# Altium footprint library 27 RESISTORS_THD_AX14_8mm_P.PcbLib: 9 footprints
Each footprint in its own frame and in the unit in brackets; x right, y up, seen from the top. Pads: shape width x height; smd on the part's side, far side on the other; paste and mask are expansions set on the pad; w line width, h text height; cw(c..) or ccw(c..) is an arc to the next point about the centre after c.
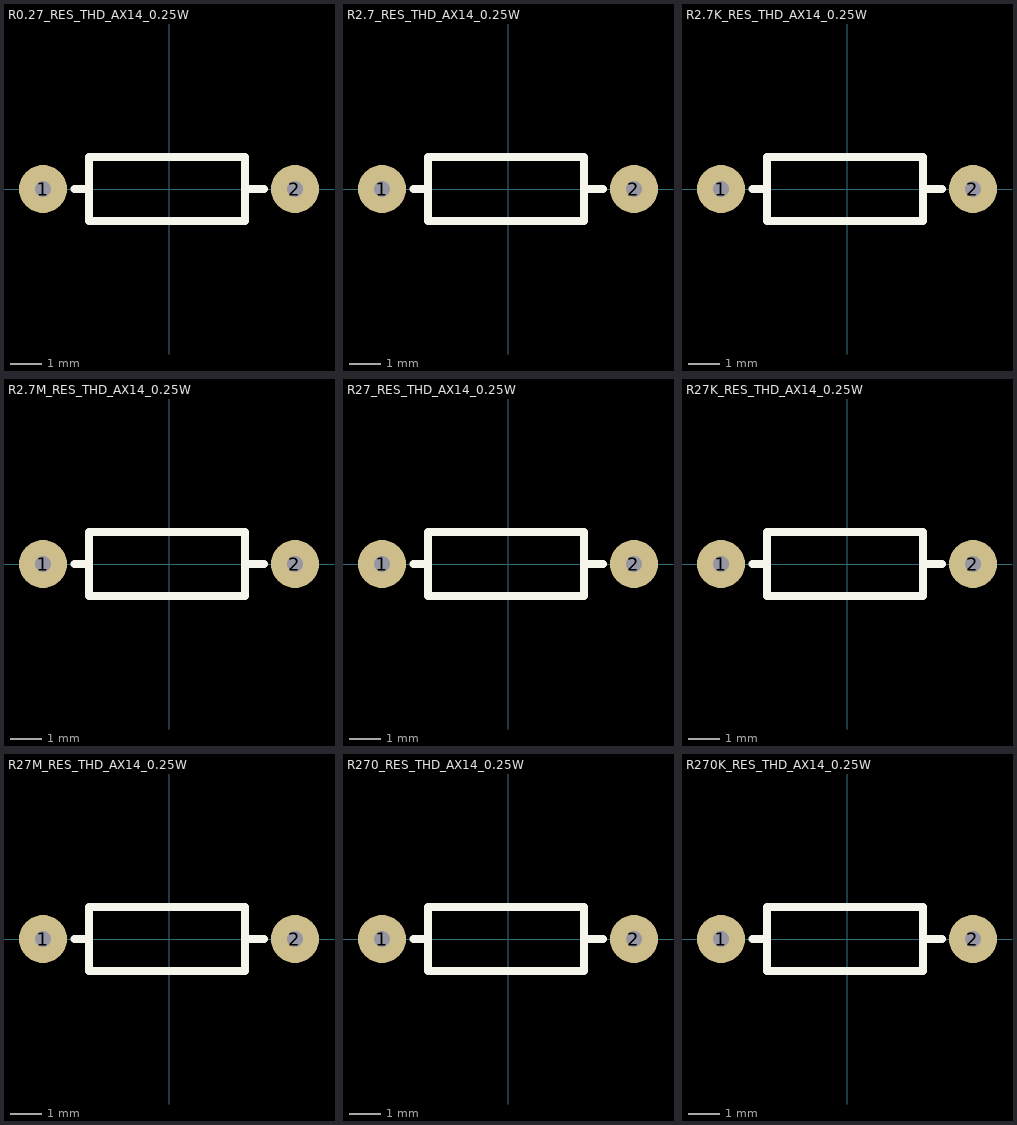
[diagram p0: the footprints below, top view; thin cyan lines are the x and y axes]

## R0.27_RES_THD_AX14_0.25W [mil] "RESISTOR 0.27 Ohm  THD AX14 0.25W Length  8mm"
pads (2):
  round 60 hole 19.68: 1(-157.48,0) 2(157.48,0)
Top Overlay:
  lines w10: -118.28,0 -100.6,0 ; 95,0 118.49,0 ; -100,-40 95,-40 95,40 -100,40 -100,-40
3D body "RES_THD_ASR_ASRM_0.27.STEP": height 96.5, standoff -96.46, extent -167.32,-45.33 167.32,45.33

## R2.7_RES_THD_AX14_0.25W [mil] "RESISTOR 2.7 Ohm  THD AX14 0.25W Length  8mm"
pads (2):
  round 60 hole 19.68: 1(-157.48,0) 2(157.48,0)
Top Overlay:
  lines w10: -118.28,0 -100.6,0 ; 95,0 118.49,0 ; -100,-40 -100,40 95,40 95,-40 -100,-40
3D body "RES_THD_ASR_ASRM_2.7.STEP": height 96.5, standoff -96.46, extent -167.32,-45.33 167.32,45.33

## R2.7K_RES_THD_AX14_0.25W [mil] "RESISTOR 2.7K Ohm  THD AX14 0.25W Length  8mm"
pads (2):
  round 60 hole 19.68: 1(-157.48,0) 2(157.48,0)
Top Overlay:
  lines w10: -118.28,0 -100.6,0 ; 95,0 118.49,0 ; -100,-40 95,-40 95,40 -100,40 -100,-40
3D body "RES_THD_ASR_ASRM_2.7K.STEP": height 96.5, standoff -96.46, extent -167.32,-45.33 167.32,45.33

## R2.7M_RES_THD_AX14_0.25W [mil] "RESISTOR 2.7M Ohm  THD AX14 0.25W Length  8mm"
pads (2):
  round 60 hole 19.68: 1(-157.48,0) 2(157.48,0)
Top Overlay:
  lines w10: -118.28,0 -100.6,0 ; 95,0 118.49,0 ; -100,-40 -100,40 95,40 95,-40 -100,-40
3D body "RES_THD_ASR_ASRM_2.7M.STEP": height 96.5, standoff -96.46, extent -167.32,-45.33 167.32,45.33

## R27_RES_THD_AX14_0.25W [mil] "RESISTOR 27 Ohm  THD AX14 0.25W Length  8mm"
pads (2):
  round 60 hole 19.68: 1(-157.48,0) 2(157.48,0)
Top Overlay:
  lines w10: -118.28,0 -100.6,0 ; 95,0 118.49,0 ; -100,-40 -100,40 95,40 95,-40 -100,-40
3D body "RES_THD_ASR_ASRM_27.STEP": height 96.5, standoff -96.46, extent -167.32,-45.33 167.32,45.33

## R27K_RES_THD_AX14_0.25W [mil] "RESISTOR 27K Ohm  THD AX14 0.25W Length  8mm"
pads (2):
  round 60 hole 19.68: 1(-157.48,0) 2(157.48,0)
Top Overlay:
  lines w10: -118.28,0 -100.6,0 ; 95,0 118.49,0 ; -100,-40 -100,40 95,40 95,-40 -100,-40
3D body "RES_THD_ASR_ASRM_27K.STEP": height 96.5, standoff -96.46, extent -167.32,-45.33 167.32,45.33

## R27M_RES_THD_AX14_0.25W [mil] "RESISTOR 27M Ohm  THD AX14 0.25W Length  8mm"
pads (2):
  round 60 hole 19.68: 1(-157.48,0) 2(157.48,0)
Top Overlay:
  lines w10: -118.28,0 -100.6,0 ; 95,0 118.49,0 ; -100,-40 -100,40 95,40 95,-40 -100,-40
3D body "RES_THD_ASR_ASRM_27M.STEP": height 96.5, standoff -96.46, extent -167.32,-45.33 167.32,45.33

## R270_RES_THD_AX14_0.25W [mil] "RESISTOR 270 Ohm  THD AX14 0.25W Length  8mm"
pads (2):
  round 60 hole 19.68: 1(-157.48,0) 2(157.48,0)
Top Overlay:
  lines w10: -118.28,0 -100.6,0 ; 95,0 118.49,0 ; -100,-40 -100,40 95,40 95,-40 -100,-40
3D body "RES_THD_ASR_ASRM_270.STEP": height 96.5, standoff -96.46, extent -167.32,-45.33 167.32,45.33

## R270K_RES_THD_AX14_0.25W [mil] "RESISTOR 270K Ohm  THD AX14 0.25W Length  8mm"
pads (2):
  round 60 hole 19.68: 1(-157.48,0) 2(157.48,0)
Top Overlay:
  lines w10: -118.28,0 -100.6,0 ; 95,0 118.49,0 ; -100,-40 -100,40 95,40 95,-40 -100,-40
3D body "RES_THD_ASR_ASRM_270K.STEP": height 96.5, standoff -96.46, extent -167.32,-45.33 167.32,45.33